# EAGLE library part MAX98357 (library PP_AnalogIC)
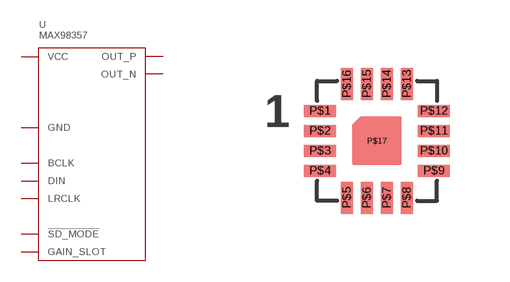
[diagram p12: symbol with the pads of MAX98357_TQFN-16; footprint MAX98357_TQFN-16]

Designator prefix U

## MAX98357  [MAX98357_TQFN-16]
P$1  DIN
P$2  GAIN_SLOT
P$3  GND
P$4  !SD_MODE
P$7  VCC
P$8  VCC
P$9  OUT_P
P$10  OUT_N
P$11  GND
P$14  LRCLK
P$15  GND
P$16  BCLK
P$17  GND

## Footprint MAX98357_TQFN-16 (pad centres in mm)
smd 0.8 x 0.3: P$1 -1.425,0.75; P$2 -1.425,0.25; P$3 -1.425,-0.25; P$4 -1.425,-0.75; P$9 1.425,-0.75; P$10 1.425,-0.25; P$11 1.425,0.25; P$12 1.425,0.75
smd 0.3 x 0.8: P$5 -0.75,-1.425; P$6 -0.25,-1.425; P$7 0.25,-1.425; P$8 0.75,-1.425; P$13 0.75,1.425; P$14 0.25,1.425; P$15 -0.25,1.425; P$16 -0.75,1.425
smd 0.3 x 0.3: P$17 0,0